# EAGLE library part INA326 (library Development_Board)
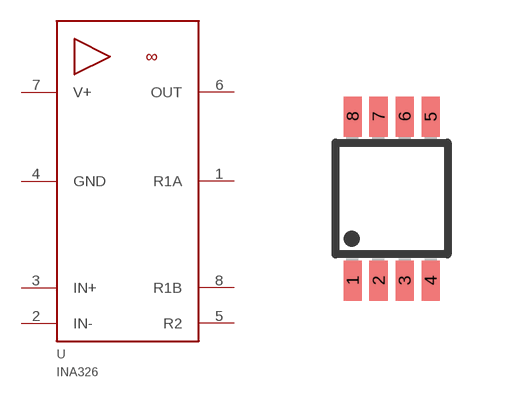
[diagram p4: symbol with the pads of MSOP-8; footprint MSOP-8]

Designator prefix -

## INA326  [MSOP-8]
1  R1A
2  IN-  in
3  IN+  in
4  GND  sup
5  R2
6  OUT  out
7  V+  sup
8  R1B

## Footprint MSOP-8 (pad centres in mm)
Micro Small Outline Package Grid .65mm
smd 0.45 x 1: 1 -0.975,-2.05; 2 -0.325,-2.05; 3 0.325,-2.05; 4 0.975,-2.05; 5 0.975,2.05; 6 0.325,2.05; 7 -0.325,2.05; 8 -0.975,2.05